# Altium footprint library Diode_Microsemi_1N5825_eec_0.PcbLib: 1 footprints
Each footprint in its own frame and in the unit in brackets; x right, y up, seen from the top. Pads: shape width x height; smd on the part's side, far side on the other; paste and mask are expansions set on the pad; w line width, h text height; cw(c..) or ccw(c..) is an arc to the next point about the centre after c.
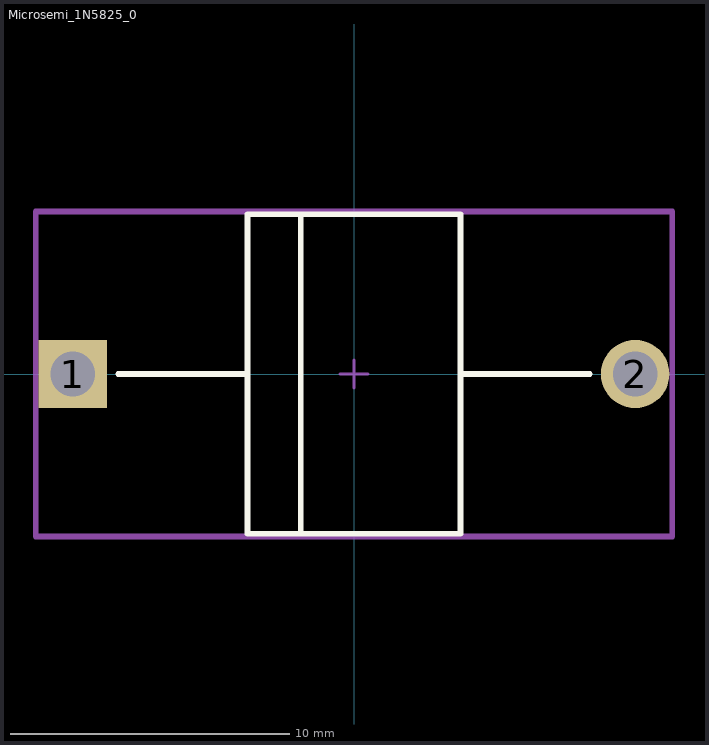
[diagram p0: the footprint, top view; thin cyan lines are the x and y axes]

## Microsemi_1N5825_0 [mm]
pads (2):
  rect 2.45x2.45 hole 1.6 paste-1000 mask+0: 1(-10.058,0)
  round 2.45 hole 1.6 paste-1000 mask+0: 2(10.058,0)
Top Overlay:
  lines w0.2: -8.433,0 -3.81,0 ; -1.905,-5.645 -1.905,5.645 ; 3.81,0 8.433,0 ; -3.81,-5.715 3.81,-5.715 3.81,5.715 -3.81,5.715 -3.81,-5.715
Mechanical 10:
  lines w0.2: -11.383,-5.815 11.383,-5.815 11.383,5.815 -11.383,5.815 -11.383,-5.815
  text ".Designator" at 0,0 h1
Mechanical 12:
  lines w0.15: -3.81,-5.715 3.81,-5.715 3.81,5.715 -3.81,5.715 -3.81,-5.715
Mechanical 15:
  lines w0.1: -0.5,0 0.5,0 ; 0,-0.5 0,0.5
  lines w0.2: -11.383,-5.815 11.383,-5.815 11.383,5.815 -11.383,5.815 -11.383,-5.815
3D body "Diode_Microsemi_1N5825_eec.STEP": height 0.25, standoff 0, extent -11.383,-5.815 11.383,5.815